# EAGLE library part ST-HTS221 (library FaBo-Environment)
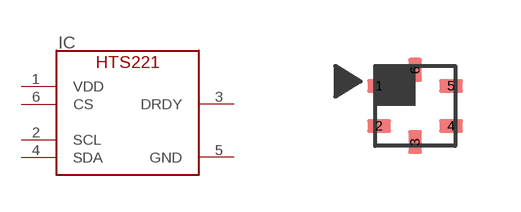
[diagram p8: symbol with the pads of ST-HTS221; footprint ST-HTS221]

Designator prefix IC

## ST-HTS221  [ST-HTS221]
1  VDD
2  SCL
3  DRDY
4  SDA
5  GND
6  CS

## Footprint ST-HTS221 (pad centres in mm)
smd 0.6 x 0.35: 1 -0.9,0.5; 2 -0.9,-0.5; 4 0.9,-0.5; 5 0.9,0.5
smd 0.35 x 0.6: 3 0,-0.9; 6 0,0.9